# EAGLE library part AVRISP (library parts)
ISP header for AVR
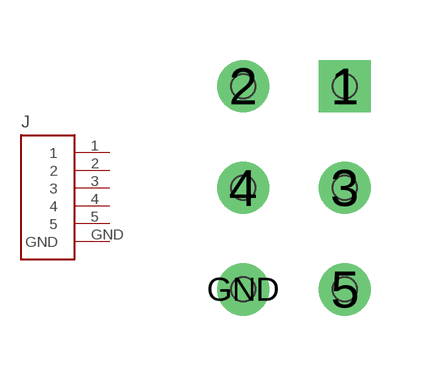
[diagram p4: symbol with the pads of AVRISP; footprint AVRISP]

Designator prefix J

## AVRISP  [AVRISP]
1  1
2  2
3  3
4  4
5  5
GND  GND  pwr

## Footprint AVRISP (pad centres in mm)
drill 0.8 square: 1 1.27,2.54
drill 0.8 round: 2 -1.27,2.54; 3 1.27,0; 4 -1.27,0; 5 1.27,-2.54; GND -1.27,-2.54
hole 0.6 at -1.27,-2.54
hole 0.6 at 1.27,-2.54
hole 0.6 at 1.27,0
hole 0.6 at -1.27,0
hole 0.6 at -1.27,2.54
hole 0.6 at 1.27,2.54